# EAGLE library part LSM303D-WIDE-PADS (library miller)
LSM303D magnetometer and accelerometer LGA-16 package with extra-wide pads
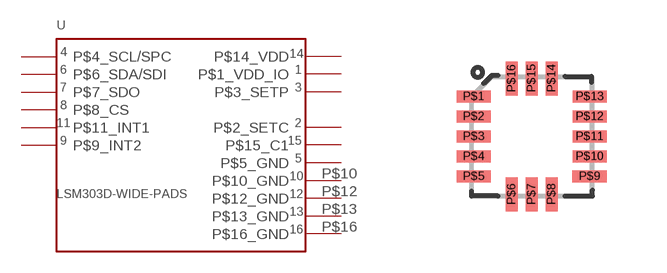
[diagram p15: symbol with the pads of LSM303D; footprint LSM303D]

Designator prefix -

## LSM303D-WIDE-PADS  [LSM303D]
P$1  P$1_VDD_IO  pwr
P$2  P$2_SETC
P$3  P$3_SETP
P$4  P$4_SCL/SPC
P$5  P$5_GND  pwr
P$6  P$6_SDA/SDI
P$7  P$7_SDO
P$8  P$8_CS
P$9  P$9_INT2
P$10  P$10_GND
P$11  P$11_INT1
P$12  P$12_GND
P$13  P$13_GND
P$14  P$14_VDD  pwr
P$15  P$15_C1
P$16  P$16_GND

## Footprint LSM303D (pad centres in mm)
LSM303D accelerometer/magnetometer LGA-16 pattern, with long pads Avoid running traces on the top layer in the middle of the pattern, as it makes soldering difficult.
smd 0.85 x 0.3: P$1 -1.45,1; P$2 -1.45,0.5; P$3 -1.45,0; P$4 -1.45,-0.5; P$5 -1.45,-1; P$10 1.45,-0.5; P$11 1.45,0; P$12 1.45,0.5; P$13 1.45,1
smd 0.3 x 0.85: P$6 -0.5,-1.45; P$7 0,-1.45; P$8 0.5,-1.45; P$14 0.5,1.45; P$15 0,1.45; P$16 -0.5,1.45
smd 0.852 x 0.3: P$9 1.45,-1